# Altium schematic symbol library SCH - DRIVER - LED - TI TPS92310_DGS_10.SchLib: 1 symbol
Pins are listed as number, name and electrical type; pins without a type are passive.

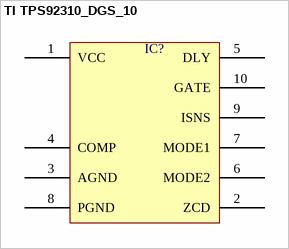
[diagram p0: symbol TI TPS92310_DGS_10]

## TI TPS92310_DGS_10
designator IC?  (value not drawn)
pins: 1 VCC, 2 ZCD, 3 AGND, 4 COMP, 5 DLY, 6 MODE2, 7 MODE1, 8 PGND, 9 ISNS, 10 GATE